# EAGLE library part SBH11-NBPC-D20 (library con-sullins)
HEADER - Vertical, Shrouded
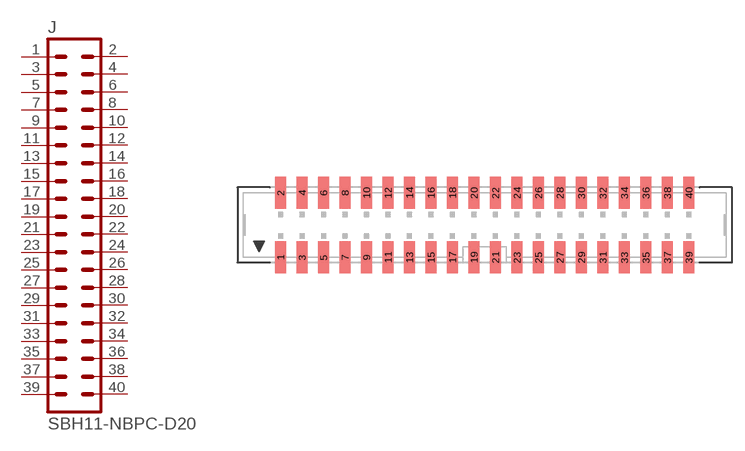
[diagram p29: symbol with the pads of SBH11-NBPC-D20; footprint SBH11-NBPC-D20]

Designator prefix J

## SBH11-NBPC-D20  [SBH11-NBPC-D20]
1  1  pas
2  2  pas
3  3  pas
4  4  pas
5  5  pas
6  6  pas
7  7  pas
8  8  pas
9  9  pas
10  10  pas
11  11  pas
12  12  pas
13  13  pas
14  14  pas
15  15  pas
16  16  pas
17  17  pas
18  18  pas
19  19  pas
20  20  pas
21  21  pas
22  22  pas
23  23  pas
24  24  pas
25  25  pas
26  26  pas
27  27  pas
28  28  pas
29  29  pas
30  30  pas
31  31  pas
32  32  pas
33  33  pas
34  34  pas
35  35  pas
36  36  pas
37  37  pas
38  38  pas
39  39  pas
40  40  pas

## Footprint SBH11-NBPC-D20 (pad centres in mm)
SMD HEADER - 0.1", Shrouded, Vertical
smd 1.27 x 3.81: 1 -24.13,-3.81; 2 -24.13,3.81; 3 -21.59,-3.81; 4 -21.59,3.81; 5 -19.05,-3.81; 6 -19.05,3.81; 7 -16.51,-3.81; 8 -16.51,3.81; 9 -13.97,-3.81; 10 -13.97,3.81; 11 -11.43,-3.81; 12 -11.43,3.81; 13 -8.89,-3.81; 14 -8.89,3.81; 15 -6.35,-3.81; 16 -6.35,3.81; 17 -3.81,-3.81; 18 -3.81,3.81; 19 -1.27,-3.81; 20 -1.27,3.81; 21 1.27,-3.81; 22 1.27,3.81; 23 3.81,-3.81; 24 3.81,3.81; 25 6.35,-3.81; 26 6.35,3.81; 27 8.89,-3.81; 28 8.89,3.81; 29 11.43,-3.81; 30 11.43,3.81; 31 13.97,-3.81; 32 13.97,3.81; 33 16.51,-3.81; 34 16.51,3.81; 35 19.05,-3.81; 36 19.05,3.81; 37 21.59,-3.81; 38 21.59,3.81; 39 24.13,-3.81; 40 24.13,3.81